# Altium integrated library TI Power Management Supervisor and Reset IC.IntLib: 819 symbols (part 27 of 30)
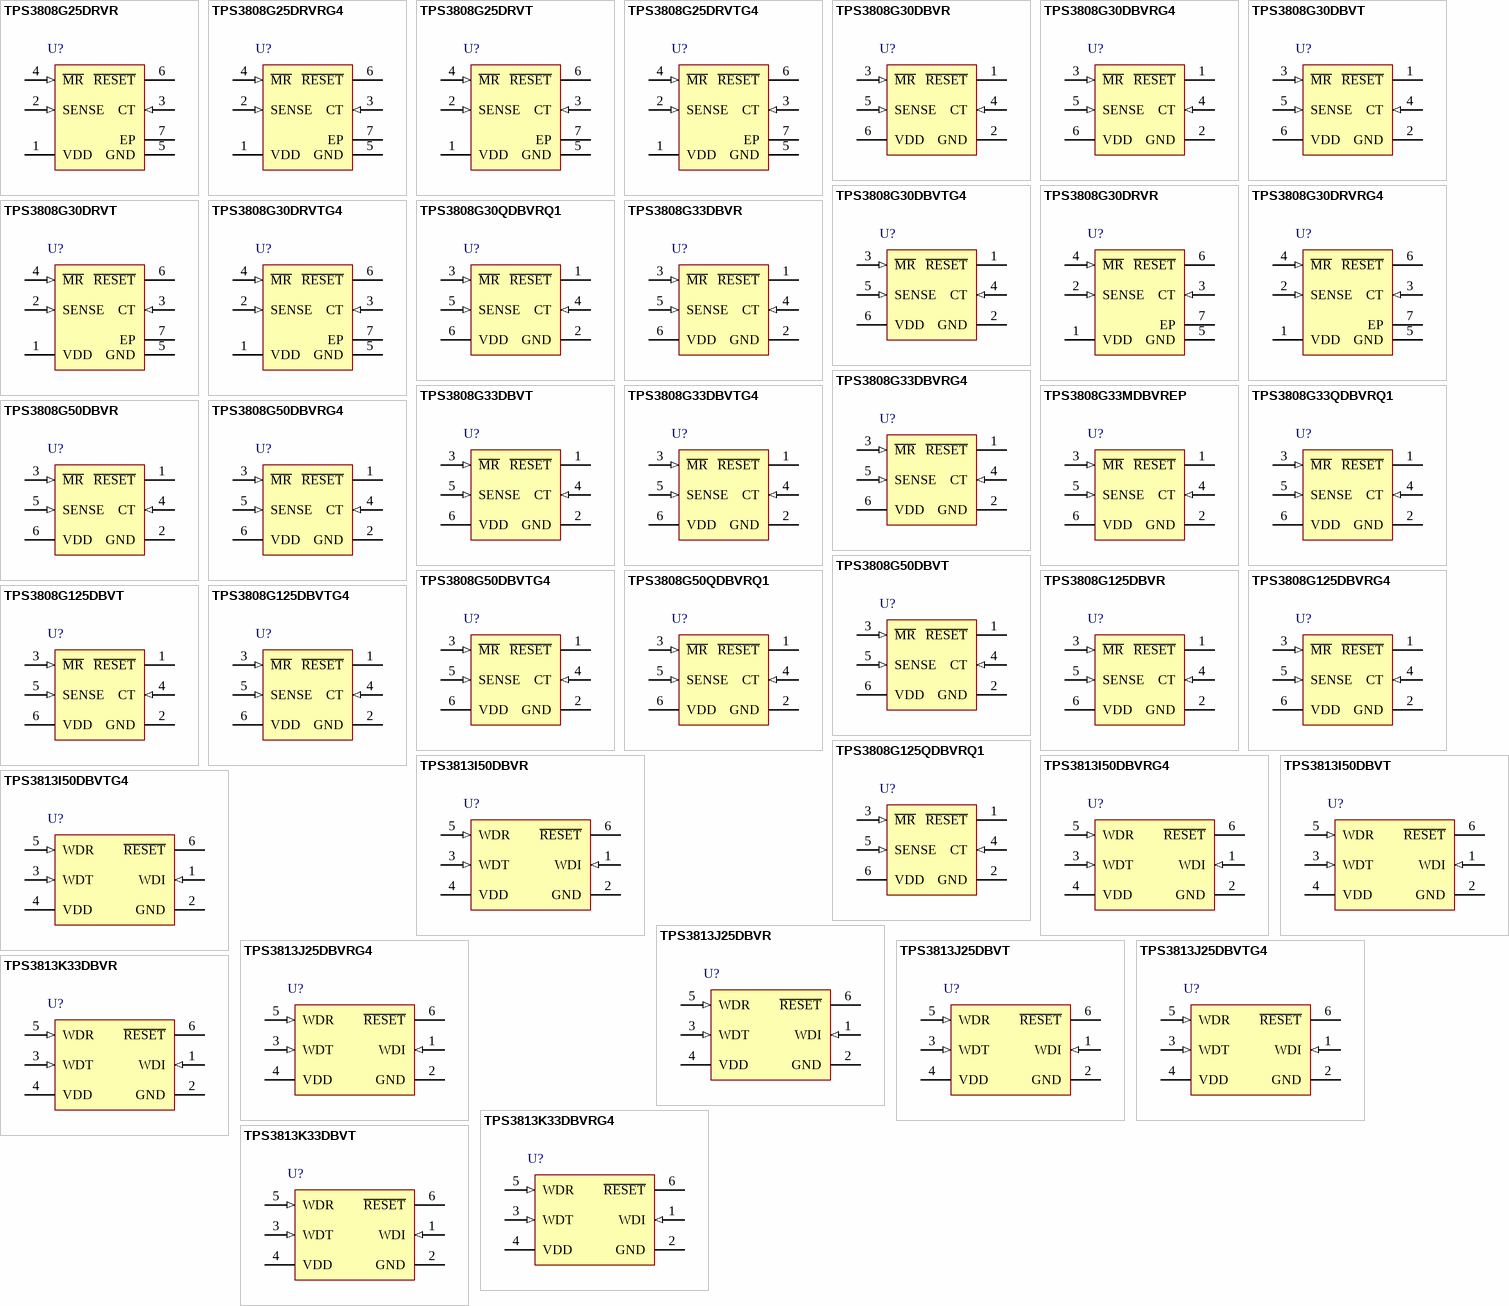
[diagram p47: symbols TPS3808G25DRVR to TPS3813K33DBVT]

## TPS3813K33DBVR
designator U?
Supervisor with Programmable Watchdog Window, 1 Supply Monitored, -40 to 85 degC, 6-pin SOT-23 (DBV), Green (RoHS & no Sb/Br); Manufacturer: Texas Instruments; PartNumber: TPS3813K33DBVR; # of supplies monitored: 1; Iq(Typ)(uA): 9; Output Driver Type / Reset Output: Active-low, Open-drain; Rating: Catalog; Reset Threshold Accuracy(%): 2.2; SubFamily: Supervisor and Reset IC; Threshold Voltage 1 (typ)(Typ)(V): 2.93; Time Delay(ms): 25; VCC(Max)(V): 6; VCC(Min)(V): 2; DatasheetVersion: SLVS331F; PackageVersion: revK, Mar-2006; PackageReference: DBV6; PackageDescription: 6-Pin Plastic Small-Outline Package, 2.9 x 1.6 mm Body, 0.95 mm Pitch, 2.8 mm Lead Span; Supplier 1: Digi-Key; Supplier Part Number 1: TPS3813K33DBVR-ND; Supplier 2: Newark; Supplier Part Number 2: 77C0409; Supplier 3: Mouser; Supplier Part Number 3: 595-TPS3813K33DBVR; Watchdog Timer WDI(sec): Programmable; Mounting Technology: Surface Mount; Code_JEDEC: MO-178-AB*; ComponentLink1Description: Datasheet; ComponentLink1URL: http://www.ti.com/general/docs/lit/getliterature.tsp?genericPartNumber=TPS3813K33&fileType=pdf
footprint DBV6_N (SOT23, 6-Leads, Body 2.9x1.6mm, Pitch 0.95mm, Lead Span 2.8mm, IPC Medium Density)
footprint DBV6_L (SOT23, 6-Leads, Body 2.9x1.6mm, Pitch 0.95mm, Lead Span 2.8mm, IPC High Density)
footprint DBV6_M (SOT23, 6-Leads, Body 2.9x1.6mm, Pitch 0.95mm, Lead Span 2.8mm, IPC Low Density)
pins: 1 WDI (in) "Watchdog timer input. This input must be driven at all times and not left floating.", 2 GND (power) "Ground", 3 WDT (in) "Programmable watchdog delay input", 4 VDD (power) "Supply voltage and supervising input", 5 WDR (in) "Selectable watchdog window ratio input. This input must be tied to VDD or GND and not left floating", 6 ~{RESET} (oc) "Open-drain reset output"

## TPS3813K33DBVRG4
designator U?
Supervisor with Programmable Watchdog Window, 1 Supply Monitored, -40 to 85 degC, 6-pin SOT-23 (DBV), Green (RoHS & no Sb/Br); Manufacturer: Texas Instruments; PartNumber: TPS3813K33DBVRG4; # of supplies monitored: 1; Iq(Typ)(uA): 9; Output Driver Type / Reset Output: Active-low, Open-drain; Rating: Catalog; Reset Threshold Accuracy(%): 2.2; SubFamily: Supervisor and Reset IC; Threshold Voltage 1 (typ)(Typ)(V): 2.93; Time Delay(ms): 25; VCC(Max)(V): 6; VCC(Min)(V): 2; DatasheetVersion: SLVS331F; PackageVersion: revK, Mar-2006; PackageReference: DBV6; PackageDescription: 6-Pin Plastic Small-Outline Package, 2.9 x 1.6 mm Body, 0.95 mm Pitch, 2.8 mm Lead Span; Supplier 1: Digi-Key; Supplier Part Number 1: TPS3813K33DBVRG4-ND; Supplier 2: Newark; Supplier Part Number 2: 71J8113; Supplier 3: Mouser; Supplier Part Number 3: 595-TPS3813K33DBVRG4; Watchdog Timer WDI(sec): Programmable; Mounting Technology: Surface Mount; Code_JEDEC: MO-178-AB*; ComponentLink1Description: Datasheet; ComponentLink1URL: http://www.ti.com/general/docs/lit/getliterature.tsp?genericPartNumber=TPS3813K33&fileType=pdf
footprint DBV6_N (SOT23, 6-Leads, Body 2.9x1.6mm, Pitch 0.95mm, Lead Span 2.8mm, IPC Medium Density)
footprint DBV6_L (SOT23, 6-Leads, Body 2.9x1.6mm, Pitch 0.95mm, Lead Span 2.8mm, IPC High Density)
footprint DBV6_M (SOT23, 6-Leads, Body 2.9x1.6mm, Pitch 0.95mm, Lead Span 2.8mm, IPC Low Density)
pins: 1 WDI (in) "Watchdog timer input. This input must be driven at all times and not left floating.", 2 GND (power) "Ground", 3 WDT (in) "Programmable watchdog delay input", 4 VDD (power) "Supply voltage and supervising input", 5 WDR (in) "Selectable watchdog window ratio input. This input must be tied to VDD or GND and not left floating", 6 ~{RESET} (oc) "Open-drain reset output"

## TPS3813K33DBVT
designator U?
Supervisor with Programmable Watchdog Window, 1 Supply Monitored, -40 to 85 degC, 6-pin SOT-23 (DBV), Green (RoHS & no Sb/Br); Manufacturer: Texas Instruments; PartNumber: TPS3813K33DBVT; # of supplies monitored: 1; Iq(Typ)(uA): 9; Output Driver Type / Reset Output: Active-low, Open-drain; Rating: Catalog; Reset Threshold Accuracy(%): 2.2; SubFamily: Supervisor and Reset IC; Threshold Voltage 1 (typ)(Typ)(V): 2.93; Time Delay(ms): 25; VCC(Max)(V): 6; VCC(Min)(V): 2; DatasheetVersion: SLVS331F; PackageVersion: revK, Mar-2006; PackageReference: DBV6; PackageDescription: 6-Pin Plastic Small-Outline Package, 2.9 x 1.6 mm Body, 0.95 mm Pitch, 2.8 mm Lead Span; Supplier 1: Digi-Key; Supplier Part Number 1: 296-10920-2-ND; Supplier 2: Digi-Key; Supplier Part Number 2: 296-10920-1-ND; Supplier 3: Digi-Key; Supplier Part Number 3: 296-10920-6-ND; Supplier 4: Farnell; Supplier Part Number 4: 8457190; Supplier 5: Newark; Supplier Part Number 5: 38K8676; Supplier 6: Newark; Supplier Part Number 6: 77C0410; Supplier 7: Mouser; Supplier Part Number 7: 595-TPS3813K33DBVT; Watchdog Timer WDI(sec): Programmable; Mounting Technology: Surface Mount; Code_JEDEC: MO-178-AB*; ComponentLink1Description: Datasheet; ComponentLink1URL: http://www.ti.com/general/docs/lit/getliterature.tsp?genericPartNumber=TPS3813K33&fileType=pdf
footprint DBV6_N (SOT23, 6-Leads, Body 2.9x1.6mm, Pitch 0.95mm, Lead Span 2.8mm, IPC Medium Density)
footprint DBV6_L (SOT23, 6-Leads, Body 2.9x1.6mm, Pitch 0.95mm, Lead Span 2.8mm, IPC High Density)
footprint DBV6_M (SOT23, 6-Leads, Body 2.9x1.6mm, Pitch 0.95mm, Lead Span 2.8mm, IPC Low Density)
pins: 1 WDI (in) "Watchdog timer input. This input must be driven at all times and not left floating.", 2 GND (power) "Ground", 3 WDT (in) "Programmable watchdog delay input", 4 VDD (power) "Supply voltage and supervising input", 5 WDR (in) "Selectable watchdog window ratio input. This input must be tied to VDD or GND and not left floating", 6 ~{RESET} (oc) "Open-drain reset output"

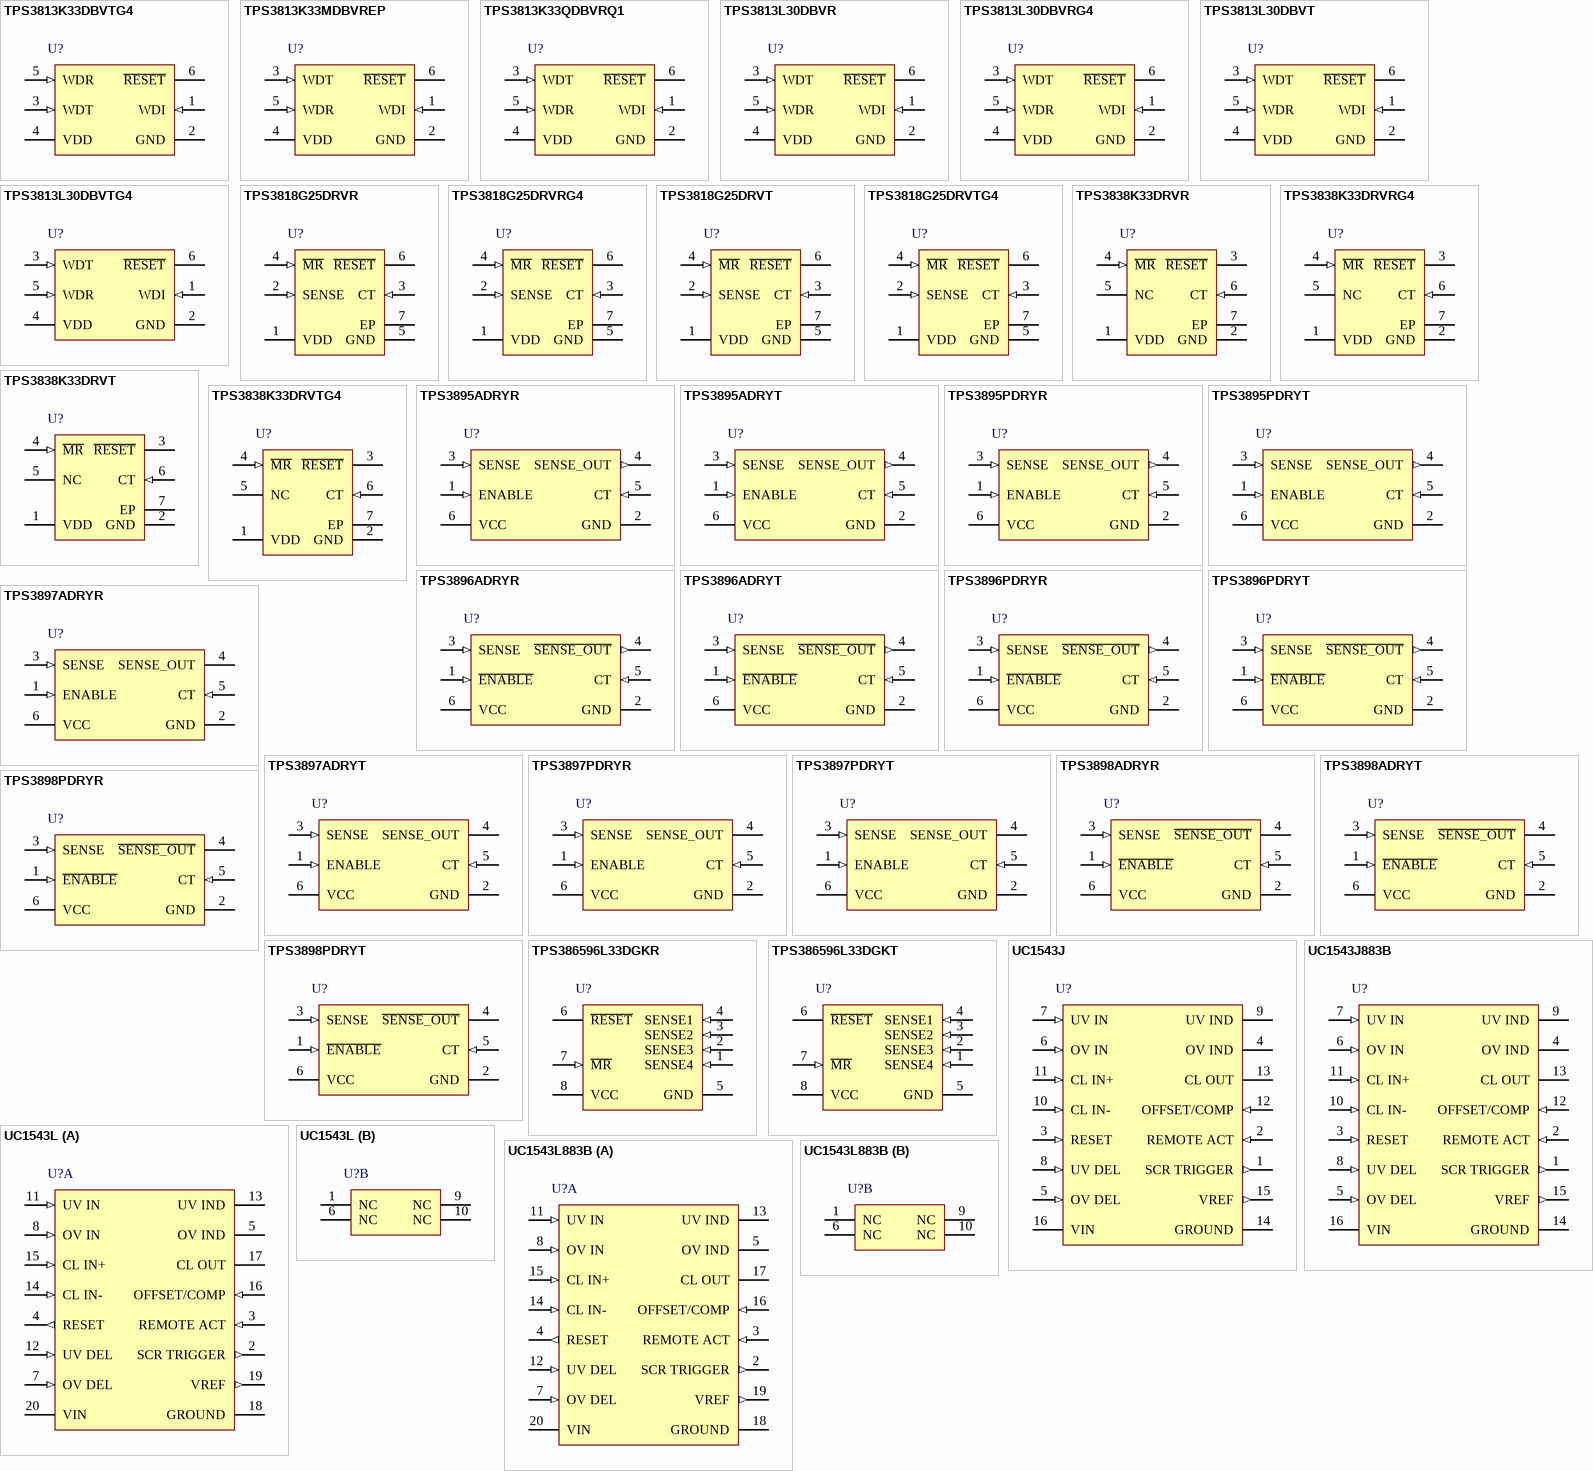
[diagram p19: symbols TPS3813K33DBVTG4 to UC1543L883B]

## TPS3813K33DBVTG4
designator U?
Supervisor with Programmable Watchdog Window, 1 Supply Monitored, -40 to 85 degC, 6-pin SOT-23 (DBV), Green (RoHS & no Sb/Br); Manufacturer: Texas Instruments; PartNumber: TPS3813K33DBVTG4; # of supplies monitored: 1; Iq(Typ)(uA): 9; Output Driver Type / Reset Output: Active-low, Open-drain; Rating: Catalog; Reset Threshold Accuracy(%): 2.2; SubFamily: Supervisor and Reset IC; Threshold Voltage 1 (typ)(Typ)(V): 2.93; Time Delay(ms): 25; VCC(Max)(V): 6; VCC(Min)(V): 2; DatasheetVersion: SLVS331F; PackageVersion: revK, Mar-2006; PackageReference: DBV6; PackageDescription: 6-Pin Plastic Small-Outline Package, 2.9 x 1.6 mm Body, 0.95 mm Pitch, 2.8 mm Lead Span; Supplier 1: Digi-Key; Supplier Part Number 1: TPS3813K33DBVTG4-ND; Supplier 2: Newark; Supplier Part Number 2: 71J8114; Supplier 3: Mouser; Supplier Part Number 3: 595-TPS3813K33DBVTG4; Watchdog Timer WDI(sec): Programmable; Mounting Technology: Surface Mount; Code_JEDEC: MO-178-AB*; ComponentLink1Description: Datasheet; ComponentLink1URL: http://www.ti.com/general/docs/lit/getliterature.tsp?genericPartNumber=TPS3813K33&fileType=pdf
footprint DBV6_N (SOT23, 6-Leads, Body 2.9x1.6mm, Pitch 0.95mm, Lead Span 2.8mm, IPC Medium Density)
footprint DBV6_L (SOT23, 6-Leads, Body 2.9x1.6mm, Pitch 0.95mm, Lead Span 2.8mm, IPC High Density)
footprint DBV6_M (SOT23, 6-Leads, Body 2.9x1.6mm, Pitch 0.95mm, Lead Span 2.8mm, IPC Low Density)
pins: 1 WDI (in) "Watchdog timer input. This input must be driven at all times and not left floating.", 2 GND (power) "Ground", 3 WDT (in) "Programmable watchdog delay input", 4 VDD (power) "Supply voltage and supervising input", 5 WDR (in) "Selectable watchdog window ratio input. This input must be tied to VDD or GND and not left floating", 6 ~{RESET} (oc) "Open-drain reset output"

## TPS3813K33MDBVREP
designator U?
Enhanced Product Processor Supervisory Circuit with Window-Watchdog, 1 Supply Monitored, -55 to 125 degC, 6-pin SOT-23 (DBV), Green (RoHS & no Sb/Br); Manufacturer: Texas Instruments; PartNumber: TPS3813K33MDBVREP; # of supplies monitored: 1; Iq(Typ)(uA): 9; Output Driver Type / Reset Output: Active-low, Open-drain; Rating: HiRel Enhanced Product; Reset Threshold Accuracy(%): 2.2; SubFamily: Supervisor and Reset IC; Threshold Voltage 1 (typ)(Typ)(V): 2.93; Time Delay(ms): 25; VCC(Max)(V): 6; VCC(Min)(V): 2; Watchdog Timer WDI(sec): Programmable; DatasheetVersion: SGLS343A; PackageVersion: revK, Mar-2006; PackageReference: DBV6; PackageDescription: 6-Pin Plastic Small-Outline Package, 2.9 x 1.6 mm Body, 0.95 mm Pitch, 2.8 mm Lead Span; Supplier 1: Digi-Key; Supplier Part Number 1: 296-22441-2-ND; Supplier 2: Digi-Key; Supplier Part Number 2: 296-22441-1-ND; Supplier 3: Digi-Key; Supplier Part Number 3: 296-22441-6-ND; Supplier 4: Newark; Supplier Part Number 4: 46M1104; Supplier 5: Mouser; Supplier Part Number 5: 595-PS3813K33MDBVREP; Mounting Technology: Surface Mount; Code_JEDEC: MO-178-AB*; ComponentLink1Description: Datasheet; ComponentLink1URL: http://www.ti.com/general/docs/lit/getliterature.tsp?genericPartNumber=TPS3813K33-EP&fileType=pdf
footprint DBV6_N (SOT23, 6-Leads, Body 2.9x1.6mm, Pitch 0.95mm, Lead Span 2.8mm, IPC Medium Density)
footprint DBV6_L (SOT23, 6-Leads, Body 2.9x1.6mm, Pitch 0.95mm, Lead Span 2.8mm, IPC High Density)
footprint DBV6_M (SOT23, 6-Leads, Body 2.9x1.6mm, Pitch 0.95mm, Lead Span 2.8mm, IPC Low Density)
pins: 1 WDI (in) "Watchdog timer input.", 2 GND (power) "Ground.", 3 WDT (in) "Programmable watchdog delay input.", 4 VDD (power) "Supply voltage and supervising input.", 5 WDR (in) "Selectable watchdog window ratio input.", 6 ~{RESET} (oc) "Open-drain reset output."

## TPS3813K33QDBVRQ1
designator U?
Automotive Catalog Supervisor with Programmable Watchdog Window, 1 Supply Monitored, -40 to 125 degC, 6-pin SOT-23 (DBV), Green (RoHS & no Sb/Br); Manufacturer: Texas Instruments; PartNumber: TPS3813K33QDBVRQ1; # of supplies monitored: 1; Iq(Typ)(uA): 9; Output Driver Type / Reset Output: Active-low, Open-drain; Reset Threshold Accuracy(%): 2.2; SubFamily: Supervisor and Reset IC; Threshold Voltage 1 (typ)(Typ)(V): 2.93; Time Delay(ms): 25; VCC(Max)(V): 6; VCC(Min)(V): 2; DatasheetVersion: SPRS288B; PackageVersion: revK, Mar-2006; PackageReference: DBV6; PackageDescription: 6-Pin Plastic Small-Outline Package, 2.9 x 1.6 mm Body, 0.95 mm Pitch, 2.8 mm Lead Span; Supplier 1: Digi-Key; Supplier Part Number 1: 296-23955-2-ND; Supplier 2: Digi-Key; Supplier Part Number 2: 296-23955-1-ND; Supplier 3: Digi-Key; Supplier Part Number 3: 296-23955-6-ND; Supplier 4: Newark; Supplier Part Number 4: 34P6485; Supplier 5: Mouser; Supplier Part Number 5: 595-PS3813K33QDBVRQ1; Rating: Automotive; Watchdog Timer WDI(sec): Programmable; Mounting Technology: Surface Mount; Code_JEDEC: MO-178-AB*; ComponentLink1Description: Datasheet; ComponentLink1URL: http://www.ti.com/general/docs/lit/getliterature.tsp?genericPartNumber=TPS3813K33-Q1&fileType=pdf
footprint DBV6_N (SOT23, 6-Leads, Body 2.9x1.6mm, Pitch 0.95mm, Lead Span 2.8mm, IPC Medium Density)
footprint DBV6_L (SOT23, 6-Leads, Body 2.9x1.6mm, Pitch 0.95mm, Lead Span 2.8mm, IPC High Density)
footprint DBV6_M (SOT23, 6-Leads, Body 2.9x1.6mm, Pitch 0.95mm, Lead Span 2.8mm, IPC Low Density)
pins: 1 WDI (in) "Watchdog timer input", 2 GND (power) "Ground", 3 WDT (in) "Programmable watchdog delay input", 4 VDD (power) "Supply voltage and supervising input", 5 WDR (in) "Selectable watchdog window ratio input", 6 ~{RESET} (oc) "Open-drain reset output"

## TPS3813L30DBVR
designator U?
Supervisor with Programmable Watchdog Window, 1 Supply Monitored, -40 to 85 degC, 6-pin SOT-23 (DBV), Green (RoHS & no Sb/Br); Manufacturer: Texas Instruments; PartNumber: TPS3813L30DBVR; # of supplies monitored: 1; Iq(Typ)(uA): 9; Output Driver Type / Reset Output: Active-low, Open-drain; Rating: Catalog; Reset Threshold Accuracy(%): 2.3; SubFamily: Supervisor and Reset IC; Threshold Voltage 1 (typ)(Typ)(V): 2.64; Time Delay(ms): 25; VCC(Max)(V): 6; VCC(Min)(V): 2; DatasheetVersion: SLVS331F; PackageVersion: revK, Mar-2006; PackageReference: DBV6; PackageDescription: 6-Pin Plastic Small-Outline Package, 2.9 x 1.6 mm Body, 0.95 mm Pitch, 2.8 mm Lead Span; Supplier 1: Digi-Key; Supplier Part Number 1: TPS3813L30DBVR-ND; Supplier 2: Newark; Supplier Part Number 2: 77C0411; Supplier 3: Mouser; Supplier Part Number 3: 595-TPS3813L30DBVR; Watchdog Timer WDI(sec): Programmable; Mounting Technology: Surface Mount; Code_JEDEC: MO-178-AB*; ComponentLink1Description: Datasheet; ComponentLink1URL: http://www.ti.com/general/docs/lit/getliterature.tsp?genericPartNumber=TPS3813L30&fileType=pdf
footprint DBV6_N (SOT23, 6-Leads, Body 2.9x1.6mm, Pitch 0.95mm, Lead Span 2.8mm, IPC Medium Density)
footprint DBV6_L (SOT23, 6-Leads, Body 2.9x1.6mm, Pitch 0.95mm, Lead Span 2.8mm, IPC High Density)
footprint DBV6_M (SOT23, 6-Leads, Body 2.9x1.6mm, Pitch 0.95mm, Lead Span 2.8mm, IPC Low Density)
pins: 1 WDI (in) "Watchdog timer input. This input must be driven at all times and not left floating", 2 GND (power) "Ground", 3 WDT (in) "Programmable watchdog delay input", 4 VDD (power) "Supply voltage and supervising input", 5 WDR (in) "Selectable watchdog window ratio input. This input must be tied to VDD or GND and not left floating", 6 ~{RESET} (oc) "Open-drain reset output"

## TPS3813L30DBVRG4
designator U?
Supervisor with Programmable Watchdog Window, 1 Supply Monitored, -40 to 85 degC, 6-pin SOT-23 (DBV), Green (RoHS & no Sb/Br); Manufacturer: Texas Instruments; PartNumber: TPS3813L30DBVRG4; # of supplies monitored: 1; Iq(Typ)(uA): 9; Output Driver Type / Reset Output: Active-low, Open-drain; Rating: Catalog; Reset Threshold Accuracy(%): 2.3; SubFamily: Supervisor and Reset IC; Threshold Voltage 1 (typ)(Typ)(V): 2.64; Time Delay(ms): 25; VCC(Max)(V): 6; VCC(Min)(V): 2; DatasheetVersion: SLVS331F; PackageVersion: revK, Mar-2006; PackageReference: DBV6; PackageDescription: 6-Pin Plastic Small-Outline Package, 2.9 x 1.6 mm Body, 0.95 mm Pitch, 2.8 mm Lead Span; Supplier 1: Digi-Key; Supplier Part Number 1: TPS3813L30DBVRG4-ND; Supplier 2: Newark; Supplier Part Number 2: 71J8115; Supplier 3: Mouser; Supplier Part Number 3: 595-TPS3813L30DBVRG4; Watchdog Timer WDI(sec): Programmable; Mounting Technology: Surface Mount; Code_JEDEC: MO-178-AB*; ComponentLink1Description: Datasheet; ComponentLink1URL: http://www.ti.com/general/docs/lit/getliterature.tsp?genericPartNumber=TPS3813L30&fileType=pdf
footprint DBV6_N (SOT23, 6-Leads, Body 2.9x1.6mm, Pitch 0.95mm, Lead Span 2.8mm, IPC Medium Density)
footprint DBV6_L (SOT23, 6-Leads, Body 2.9x1.6mm, Pitch 0.95mm, Lead Span 2.8mm, IPC High Density)
footprint DBV6_M (SOT23, 6-Leads, Body 2.9x1.6mm, Pitch 0.95mm, Lead Span 2.8mm, IPC Low Density)
pins: 1 WDI (in) "Watchdog timer input. This input must be driven at all times and not left floating", 2 GND (power) "Ground", 3 WDT (in) "Programmable watchdog delay input", 4 VDD (power) "Supply voltage and supervising input", 5 WDR (in) "Selectable watchdog window ratio input. This input must be tied to VDD or GND and not left floating", 6 ~{RESET} (oc) "Open-drain reset output"

## TPS3813L30DBVT
designator U?
Supervisor with Programmable Watchdog Window, 1 Supply Monitored, -40 to 85 degC, 6-pin SOT-23 (DBV), Green (RoHS & no Sb/Br); Manufacturer: Texas Instruments; PartNumber: TPS3813L30DBVT; # of supplies monitored: 1; Iq(Typ)(uA): 9; Output Driver Type / Reset Output: Active-low, Open-drain; Rating: Catalog; Reset Threshold Accuracy(%): 2.3; SubFamily: Supervisor and Reset IC; Threshold Voltage 1 (typ)(Typ)(V): 2.64; Time Delay(ms): 25; VCC(Max)(V): 6; VCC(Min)(V): 2; DatasheetVersion: SLVS331F; PackageVersion: revK, Mar-2006; PackageReference: DBV6; PackageDescription: 6-Pin Plastic Small-Outline Package, 2.9 x 1.6 mm Body, 0.95 mm Pitch, 2.8 mm Lead Span; Supplier 1: Digi-Key; Supplier Part Number 1: 296-10921-2-ND; Supplier 2: Digi-Key; Supplier Part Number 2: 296-10921-1-ND; Supplier 3: Digi-Key; Supplier Part Number 3: 296-10921-6-ND; Supplier 4: Farnell; Supplier Part Number 4: 8457204; Supplier 5: Newark; Supplier Part Number 5: 77C0412; Supplier 6: Mouser; Supplier Part Number 6: 595-TPS3813L30DBVT; Watchdog Timer WDI(sec): Programmable; Mounting Technology: Surface Mount; Code_JEDEC: MO-178-AB*; ComponentLink1Description: Datasheet; ComponentLink1URL: http://www.ti.com/general/docs/lit/getliterature.tsp?genericPartNumber=TPS3813L30&fileType=pdf
footprint DBV6_N (SOT23, 6-Leads, Body 2.9x1.6mm, Pitch 0.95mm, Lead Span 2.8mm, IPC Medium Density)
footprint DBV6_L (SOT23, 6-Leads, Body 2.9x1.6mm, Pitch 0.95mm, Lead Span 2.8mm, IPC High Density)
footprint DBV6_M (SOT23, 6-Leads, Body 2.9x1.6mm, Pitch 0.95mm, Lead Span 2.8mm, IPC Low Density)
pins: 1 WDI (in) "Watchdog timer input. This input must be driven at all times and not left floating", 2 GND (power) "Ground", 3 WDT (in) "Programmable watchdog delay input", 4 VDD (power) "Supply voltage and supervising input", 5 WDR (in) "Selectable watchdog window ratio input. This input must be tied to VDD or GND and not left floating", 6 ~{RESET} (oc) "Open-drain reset output"

## TPS3813L30DBVTG4
designator U?
Supervisor with Programmable Watchdog Window, 1 Supply Monitored, -40 to 85 degC, 6-pin SOT-23 (DBV), Green (RoHS & no Sb/Br); Manufacturer: Texas Instruments; PartNumber: TPS3813L30DBVTG4; # of supplies monitored: 1; Iq(Typ)(uA): 9; Output Driver Type / Reset Output: Active-low, Open-drain; Rating: Catalog; Reset Threshold Accuracy(%): 2.3; SubFamily: Supervisor and Reset IC; Threshold Voltage 1 (typ)(Typ)(V): 2.64; Time Delay(ms): 25; VCC(Max)(V): 6; VCC(Min)(V): 2; DatasheetVersion: SLVS331F; PackageVersion: revK, Mar-2006; PackageReference: DBV6; PackageDescription: 6-Pin Plastic Small-Outline Package, 2.9 x 1.6 mm Body, 0.95 mm Pitch, 2.8 mm Lead Span; Supplier 1: Digi-Key; Supplier Part Number 1: TPS3813L30DBVTG4-ND; Supplier 2: Newark; Supplier Part Number 2: 71J8116; Supplier 3: Mouser; Supplier Part Number 3: 595-TPS3813L30DBVTG4; Watchdog Timer WDI(sec): Programmable; Mounting Technology: Surface Mount; Code_JEDEC: MO-178-AB*; ComponentLink1Description: Datasheet; ComponentLink1URL: http://www.ti.com/general/docs/lit/getliterature.tsp?genericPartNumber=TPS3813L30&fileType=pdf
footprint DBV6_N (SOT23, 6-Leads, Body 2.9x1.6mm, Pitch 0.95mm, Lead Span 2.8mm, IPC Medium Density)
footprint DBV6_L (SOT23, 6-Leads, Body 2.9x1.6mm, Pitch 0.95mm, Lead Span 2.8mm, IPC High Density)
footprint DBV6_M (SOT23, 6-Leads, Body 2.9x1.6mm, Pitch 0.95mm, Lead Span 2.8mm, IPC Low Density)
pins: 1 WDI (in) "Watchdog timer input. This input must be driven at all times and not left floating", 2 GND (power) "Ground", 3 WDT (in) "Programmable watchdog delay input", 4 VDD (power) "Supply voltage and supervising input", 5 WDR (in) "Selectable watchdog window ratio input. This input must be tied to VDD or GND and not left floating", 6 ~{RESET} (oc) "Open-drain reset output"

## TPS3818G25DRVR
designator U?
Low Quiescent Current, Accurate Programmable-Delay Supervisory Circuit, 1 Supply Monitored, -40 to 125 degC, 6-pin SON (DRV), Green (RoHS & no Sb/Br); Manufacturer: Texas Instruments; PartNumber: TPS3818G25DRVR; # of supplies monitored: 1; Iq(Typ)(uA): 2.4; Output Driver Type / Reset Output: Active-low, Open-drain; Rating: Catalog; Reset Threshold Accuracy(%): 0.5; SubFamily: Supervisor and Reset IC; Threshold Voltage 1 (typ)(Typ)(V): 2.33; VCC(Max)(V): 6.5; VCC(Min)(V): 1.7; DatasheetVersion: SBVS106A; PackageVersion: revE, Oct-2010; PackageReference: DRV6-1600X1000TP; PackageDescription: 6-Pin Plastic Small Outline No-Lead, 2 x 2 x 0.8 mm Body, 0.65 mm Pitch, Exposed Pad; Supplier 1: Digi-Key; Supplier Part Number 1: TPS3818G25DRVR-ND; Supplier 2: Mouser; Supplier Part Number 2: 595-TPS3818G25DRVR; Time Delay(ms): Programmable; Mounting Technology: Surface Mount; ComponentLink1Description: Datasheet; ComponentLink1URL: http://www.ti.com/general/docs/lit/getliterature.tsp?genericPartNumber=TPS3818G25&fileType=pdf
footprint DRV6-1600X1000TP (SON, 6-Leads, Body 2x2mm, Pitch 0.65mm, Thermal Pad 1.6x1mm, TI Recommended)
pins: 1 VDD (power) "Supply voltage. It is good analog design practice to place a 0.1uF ceramic capacitor close to this pin.", 2 SENSE (in) "This pin is connected to the voltage to be monitored. If the voltage at this terminal drops below the threshold voltage VIT, then R\E\S\E\T\ is asserted.", 3 CT (in) "Reset period programming pin. Connecting this pin to VDD through a 40k ohm to 200k ohm resistor or leaving it open results in fixed delay times (see Electrical Characteristics). Connecting this pin to a ground referenced (See Datasheet)", 4 ~{MR} (in) "Driving the manual reset pin (M\R\) low asserts R\E\S\E\T\. M\R\ is internally tied to VDD by a 90k ohm pull-up resistor.", 5 GND (power) "Ground", 6 ~{RESET} (hiz) "R\E\S\E\T\ is an open-drain output that is driven to a low impedance state when R\E\S\E\T\ is asserted (either the SENSE input is lower than the threshold voltage (VIT) or the M\R\ pin is set to a logic low). R\E\S\E\T\ will (See Datasheet)", 7 EP (power) "PowerPAD. Connect to ground plane to enhance thermal performance of package."

## TPS3818G25DRVRG4
designator U?
Low Quiescent Current, Accurate Programmable-Delay Supervisory Circuit, 1 Supply Monitored, -40 to 125 degC, 6-pin SON (DRV), Green (RoHS & no Sb/Br); Manufacturer: Texas Instruments; PartNumber: TPS3818G25DRVRG4; # of supplies monitored: 1; Iq(Typ)(uA): 2.4; Output Driver Type / Reset Output: Active-low, Open-drain; Rating: Catalog; Reset Threshold Accuracy(%): 0.5; SubFamily: Supervisor and Reset IC; Threshold Voltage 1 (typ)(Typ)(V): 2.33; VCC(Max)(V): 6.5; VCC(Min)(V): 1.7; DatasheetVersion: SBVS106A; PackageVersion: revE, Oct-2010; PackageReference: DRV6-1600X1000TP; PackageDescription: 6-Pin Plastic Small Outline No-Lead, 2 x 2 x 0.8 mm Body, 0.65 mm Pitch, Exposed Pad; Supplier 1: Digi-Key; Supplier Part Number 1: TPS3818G25DRVRG4-ND; Supplier 2: Mouser; Supplier Part Number 2: 595-TPS3818G25DRVRG4; Time Delay(ms): Programmable; Mounting Technology: Surface Mount; ComponentLink1Description: Datasheet; ComponentLink1URL: http://www.ti.com/general/docs/lit/getliterature.tsp?genericPartNumber=TPS3818G25&fileType=pdf
footprint DRV6-1600X1000TP (SON, 6-Leads, Body 2x2mm, Pitch 0.65mm, Thermal Pad 1.6x1mm, TI Recommended)
pins: 1 VDD (power) "Supply voltage. It is good analog design practice to place a 0.1uF ceramic capacitor close to this pin.", 2 SENSE (in) "This pin is connected to the voltage to be monitored. If the voltage at this terminal drops below the threshold voltage VIT, then R\E\S\E\T\ is asserted.", 3 CT (in) "Reset period programming pin. Connecting this pin to VDD through a 40k ohm to 200k ohm resistor or leaving it open results in fixed delay times (see Electrical Characteristics). Connecting this pin to a ground referenced (See Datasheet)", 4 ~{MR} (in) "Driving the manual reset pin (M\R\) low asserts R\E\S\E\T\. M\R\ is internally tied to VDD by a 90k ohm pull-up resistor.", 5 GND (power) "Ground", 6 ~{RESET} (hiz) "R\E\S\E\T\ is an open-drain output that is driven to a low impedance state when R\E\S\E\T\ is asserted (either the SENSE input is lower than the threshold voltage (VIT) or the M\R\ pin is set to a logic low). R\E\S\E\T\ will (See Datasheet)", 7 EP (power) "PowerPAD. Connect to ground plane to enhance thermal performance of package."

## TPS3818G25DRVT
designator U?
Low Quiescent Current, Accurate Programmable-Delay Supervisory Circuit, 1 Supply Monitored, -40 to 125 degC, 6-pin SON (DRV), Green (RoHS & no Sb/Br); Manufacturer: Texas Instruments; PartNumber: TPS3818G25DRVT; # of supplies monitored: 1; Iq(Typ)(uA): 2.4; Output Driver Type / Reset Output: Active-low, Open-drain; Rating: Catalog; Reset Threshold Accuracy(%): 0.5; SubFamily: Supervisor and Reset IC; Threshold Voltage 1 (typ)(Typ)(V): 2.33; VCC(Max)(V): 6.5; VCC(Min)(V): 1.7; DatasheetVersion: SBVS106A; PackageVersion: revE, Oct-2010; PackageReference: DRV6-1600X1000TP; PackageDescription: 6-Pin Plastic Small Outline No-Lead, 2 x 2 x 0.8 mm Body, 0.65 mm Pitch, Exposed Pad; Supplier 1: Digi-Key; Supplier Part Number 1: 296-23479-2-ND; Supplier 2: Digi-Key; Supplier Part Number 2: 296-23479-1-ND; Supplier 3: Digi-Key; Supplier Part Number 3: 296-23479-6-ND; Supplier 4: Newark; Supplier Part Number 4: 11N7836; Supplier 5: Mouser; Supplier Part Number 5: 595-TPS3818G25DRVT; Time Delay(ms): Programmable; Mounting Technology: Surface Mount; ComponentLink1Description: Datasheet; ComponentLink1URL: http://www.ti.com/general/docs/lit/getliterature.tsp?genericPartNumber=TPS3818G25&fileType=pdf
footprint DRV6-1600X1000TP (SON, 6-Leads, Body 2x2mm, Pitch 0.65mm, Thermal Pad 1.6x1mm, TI Recommended)
pins: 1 VDD (power) "Supply voltage. It is good analog design practice to place a 0.1uF ceramic capacitor close to this pin.", 2 SENSE (in) "This pin is connected to the voltage to be monitored. If the voltage at this terminal drops below the threshold voltage VIT, then R\E\S\E\T\ is asserted.", 3 CT (in) "Reset period programming pin. Connecting this pin to VDD through a 40k ohm to 200k ohm resistor or leaving it open results in fixed delay times (see Electrical Characteristics). Connecting this pin to a ground referenced (See Datasheet)", 4 ~{MR} (in) "Driving the manual reset pin (M\R\) low asserts R\E\S\E\T\. M\R\ is internally tied to VDD by a 90k ohm pull-up resistor.", 5 GND (power) "Ground", 6 ~{RESET} (hiz) "R\E\S\E\T\ is an open-drain output that is driven to a low impedance state when R\E\S\E\T\ is asserted (either the SENSE input is lower than the threshold voltage (VIT) or the M\R\ pin is set to a logic low). R\E\S\E\T\ will (See Datasheet)", 7 EP (power) "PowerPAD. Connect to ground plane to enhance thermal performance of package."

## TPS3818G25DRVTG4
designator U?
Low Quiescent Current, Accurate Programmable-Delay Supervisory Circuit, 1 Supply Monitored, -40 to 125 degC, 6-pin SON (DRV), Green (RoHS & no Sb/Br); Manufacturer: Texas Instruments; PartNumber: TPS3818G25DRVTG4; # of supplies monitored: 1; Iq(Typ)(uA): 2.4; Output Driver Type / Reset Output: Active-low, Open-drain; Rating: Catalog; Reset Threshold Accuracy(%): 0.5; SubFamily: Supervisor and Reset IC; Threshold Voltage 1 (typ)(Typ)(V): 2.33; VCC(Max)(V): 6.5; VCC(Min)(V): 1.7; DatasheetVersion: SBVS106A; PackageVersion: revE, Oct-2010; PackageReference: DRV6-1600X1000TP; PackageDescription: 6-Pin Plastic Small Outline No-Lead, 2 x 2 x 0.8 mm Body, 0.65 mm Pitch, Exposed Pad; Supplier 1: Digi-Key; Supplier Part Number 1: TPS3818G25DRVTG4-ND; Supplier 2: Mouser; Supplier Part Number 2: 595-TPS3818G25DRVTG4; Time Delay(ms): Programmable; Mounting Technology: Surface Mount; ComponentLink1Description: Datasheet; ComponentLink1URL: http://www.ti.com/general/docs/lit/getliterature.tsp?genericPartNumber=TPS3818G25&fileType=pdf
footprint DRV6-1600X1000TP (SON, 6-Leads, Body 2x2mm, Pitch 0.65mm, Thermal Pad 1.6x1mm, TI Recommended)
pins: 1 VDD (power) "Supply voltage. It is good analog design practice to place a 0.1uF ceramic capacitor close to this pin.", 2 SENSE (in) "This pin is connected to the voltage to be monitored. If the voltage at this terminal drops below the threshold voltage VIT, then R\E\S\E\T\ is asserted.", 3 CT (in) "Reset period programming pin. Connecting this pin to VDD through a 40k ohm to 200k ohm resistor or leaving it open results in fixed delay times (see Electrical Characteristics). Connecting this pin to a ground referenced (See Datasheet)", 4 ~{MR} (in) "Driving the manual reset pin (M\R\) low asserts R\E\S\E\T\. M\R\ is internally tied to VDD by a 90k ohm pull-up resistor.", 5 GND (power) "Ground", 6 ~{RESET} (hiz) "R\E\S\E\T\ is an open-drain output that is driven to a low impedance state when R\E\S\E\T\ is asserted (either the SENSE input is lower than the threshold voltage (VIT) or the M\R\ pin is set to a logic low). R\E\S\E\T\ will (See Datasheet)", 7 EP (power) "PowerPAD. Connect to ground plane to enhance thermal performance of package."

## TPS3838K33DRVR
designator U?
220 nA Supervisor with 10 ms / 200 ms Selectable Delay Time, 1 Supply Monitored, -40 to 85 degC, 6-pin SON (DRV), Green (RoHS & no Sb/Br); Manufacturer: Texas Instruments; PartNumber: TPS3838K33DRVR; # of supplies monitored: 1; Iq(Typ)(uA): 0.22; Output Driver Type / Reset Output: Active-low, Open-drain; Rating: Catalog; Reset Threshold Accuracy(%): 2.6; SubFamily: Supervisor and Reset IC; Threshold Voltage 1 (typ)(Typ)(V): 2.93; Time Delay(ms): 10/200; VCC(Max)(V): 6; VCC(Min)(V): 1.6; DatasheetVersion: SLVS292E; PackageVersion: revE, Oct-2010; PackageReference: DRV6-1600X1000TP; PackageDescription: 6-Pin Plastic Small Outline No-Lead, 2 x 2 x 0.8 mm Body, 0.65 mm Pitch, Exposed Pad; Supplier 1: Digi-Key; Supplier Part Number 1: 296-22631-2-ND; Supplier 2: Digi-Key; Supplier Part Number 2: 296-22631-1-ND; Supplier 3: Digi-Key; Supplier Part Number 3: 296-22631-6-ND; Supplier 4: Newark; Supplier Part Number 4: 58M1282; Supplier 5: Mouser; Supplier Part Number 5: 595-TPS3838K33DRVR; Mounting Technology: Surface Mount; ComponentLink1Description: Datasheet; ComponentLink1URL: http://www.ti.com/general/docs/lit/getliterature.tsp?genericPartNumber=TPS3838K33&fileType=pdf
footprint DRV6-1600X1000TP (SON, 6-Leads, Body 2x2mm, Pitch 0.65mm, Thermal Pad 1.6x1mm, TI Recommended)
pins: 1 VDD (power), 2 GND (power), 3 ~{RESET} (oc), 4 ~{MR} (in), 5 NC, 6 CT (in), 7 EP (power)

## TPS3838K33DRVRG4
designator U?
220 nA Supervisor with 10 ms / 200 ms Selectable Delay Time, 1 Supply Monitored, -40 to 85 degC, 6-pin SON (DRV), Green (RoHS & no Sb/Br); Manufacturer: Texas Instruments; PartNumber: TPS3838K33DRVRG4; # of supplies monitored: 1; Iq(Typ)(uA): 0.22; Output Driver Type / Reset Output: Active-low, Open-drain; Rating: Catalog; Reset Threshold Accuracy(%): 2.6; SubFamily: Supervisor and Reset IC; Threshold Voltage 1 (typ)(Typ)(V): 2.93; Time Delay(ms): 10/200; VCC(Max)(V): 6; VCC(Min)(V): 1.6; DatasheetVersion: SLVS292E; PackageVersion: revE, Oct-2010; PackageReference: DRV6-1600X1000TP; PackageDescription: 6-Pin Plastic Small Outline No-Lead, 2 x 2 x 0.8 mm Body, 0.65 mm Pitch, Exposed Pad; Supplier 1: Digi-Key; Supplier Part Number 1: TPS3838K33DRVRG4-ND; Supplier 2: Newark; Supplier Part Number 2: 60M1788; Supplier 3: Mouser; Supplier Part Number 3: 595-TPS3838K33DRVRG4; Mounting Technology: Surface Mount; ComponentLink1Description: Datasheet; ComponentLink1URL: http://www.ti.com/general/docs/lit/getliterature.tsp?genericPartNumber=TPS3838K33&fileType=pdf
footprint DRV6-1600X1000TP (SON, 6-Leads, Body 2x2mm, Pitch 0.65mm, Thermal Pad 1.6x1mm, TI Recommended)
pins: 1 VDD (power), 2 GND (power), 3 ~{RESET} (oc), 4 ~{MR} (in), 5 NC, 6 CT (in), 7 EP (power)

## TPS3838K33DRVT
designator U?
220 nA Supervisor with 10 ms / 200 ms Selectable Delay Time, 1 Supply Monitored, -40 to 85 degC, 6-pin SON (DRV), Green (RoHS & no Sb/Br); Manufacturer: Texas Instruments; PartNumber: TPS3838K33DRVT; # of supplies monitored: 1; Iq(Typ)(uA): 0.22; Output Driver Type / Reset Output: Active-low, Open-drain; Rating: Catalog; Reset Threshold Accuracy(%): 2.6; SubFamily: Supervisor and Reset IC; Threshold Voltage 1 (typ)(Typ)(V): 2.93; Time Delay(ms): 10/200; VCC(Max)(V): 6; VCC(Min)(V): 1.6; DatasheetVersion: SLVS292E; PackageVersion: revE, Oct-2010; PackageReference: DRV6-1600X1000TP; PackageDescription: 6-Pin Plastic Small Outline No-Lead, 2 x 2 x 0.8 mm Body, 0.65 mm Pitch, Exposed Pad; Supplier 1: Digi-Key; Supplier Part Number 1: 296-32485-2-ND; Supplier 2: Digi-Key; Supplier Part Number 2: 296-32485-1-ND; Supplier 3: Digi-Key; Supplier Part Number 3: 296-32485-6-ND; Supplier 4: Newark; Supplier Part Number 4: 58M1283; Supplier 5: Mouser; Supplier Part Number 5: 595-TPS3838K33DRVT; Mounting Technology: Surface Mount; ComponentLink1Description: Datasheet; ComponentLink1URL: http://www.ti.com/general/docs/lit/getliterature.tsp?genericPartNumber=TPS3838K33&fileType=pdf
footprint DRV6-1600X1000TP (SON, 6-Leads, Body 2x2mm, Pitch 0.65mm, Thermal Pad 1.6x1mm, TI Recommended)
pins: 1 VDD (power), 2 GND (power), 3 ~{RESET} (oc), 4 ~{MR} (in), 5 NC, 6 CT (in), 7 EP (power)

## TPS3838K33DRVTG4
designator U?
220 nA Supervisor with 10 ms / 200 ms Selectable Delay Time, 1 Supply Monitored, -40 to 85 degC, 6-pin SON (DRV), Green (RoHS & no Sb/Br); Manufacturer: Texas Instruments; PartNumber: TPS3838K33DRVTG4; # of supplies monitored: 1; Iq(Typ)(uA): 0.22; Output Driver Type / Reset Output: Active-low, Open-drain; Rating: Catalog; Reset Threshold Accuracy(%): 2.6; SubFamily: Supervisor and Reset IC; Threshold Voltage 1 (typ)(Typ)(V): 2.93; Time Delay(ms): 10/200; VCC(Max)(V): 6; VCC(Min)(V): 1.6; DatasheetVersion: SLVS292E; PackageVersion: revE, Oct-2010; PackageReference: DRV6-1600X1000TP; PackageDescription: 6-Pin Plastic Small Outline No-Lead, 2 x 2 x 0.8 mm Body, 0.65 mm Pitch, Exposed Pad; Supplier 1: Digi-Key; Supplier Part Number 1: TPS3838K33DRVTG4-ND; Supplier 2: Newark; Supplier Part Number 2: 60M1789; Supplier 3: Mouser; Supplier Part Number 3: 595-TPS3838K33DRVTG4; Mounting Technology: Surface Mount; ComponentLink1Description: Datasheet; ComponentLink1URL: http://www.ti.com/general/docs/lit/getliterature.tsp?genericPartNumber=TPS3838K33&fileType=pdf
footprint DRV6-1600X1000TP (SON, 6-Leads, Body 2x2mm, Pitch 0.65mm, Thermal Pad 1.6x1mm, TI Recommended)
pins: 1 VDD (power), 2 GND (power), 3 ~{RESET} (oc), 4 ~{MR} (in), 5 NC, 6 CT (in), 7 EP (power)

## TPS3895ADRYR
designator U?
Single Channel, Ultra Small, Adjustable Supervisory Circuit with Active-High, Push-Pull Output, 1 Supply Monitored, -40 to 125 degC, 6-pin SON (DRY), Green (RoHS & no Sb/Br); Manufacturer: Texas Instruments; PartNumber: TPS3895ADRYR; # of supplies monitored: 1; Active High Enable: TRUE; Iq(Typ)(uA): 6; Rating: Catalog; Reset Threshold Accuracy(%): 0.25; SubFamily: Supervisor and Reset IC; Time Delay(ms): 0.04, Programmable; VCC(Max)(V): 6.5; VCC(Min)(V): 1.7; DatasheetVersion: SBVS172A; PackageVersion: revF, Dec-2011; PackageReference: DRY6; PackageDescription: 6-Pin Plastic Small Outline No-Lead, 1 x 1.45 x 0.6 mm Body, 0.5 mm Pitch; Supplier 1: Digi-Key; Supplier Part Number 1: 296-29806-2-ND; Supplier 2: Digi-Key; Supplier Part Number 2: 296-29806-1-ND; Supplier 3: Digi-Key; Supplier Part Number 3: 296-29806-6-ND; Supplier 4: Newark; Supplier Part Number 4: 71T5438; Supplier 5: Mouser; Supplier Part Number 5: 595-TPS3895ADRYR; Enable Pin: TRUE; Output Driver Type / Reset Output: Active-High, Push-pull; Threshold Voltage 1 (typ)(Typ)(V): Adjustable; Mounting Technology: Surface Mount; ComponentLink1Description: Datasheet; ComponentLink1URL: http://www.ti.com/general/docs/lit/getliterature.tsp?genericPartNumber=TPS3895&fileType=pdf
footprint DRY6 (PSON, 6-Leads, Body 1x1.45mm, Pitch 0.5mm, TI Recommended)
pins: 1 ENABLE (in) "Active high input. Driving ENABLE low immediately makes SENSE_OUT go low, independent of V(SENSE). With V(SENSE) already above VIT+, drive ENABLE high to make SENSE_OUT go high after the capacitor-adjustable delay time (A (See Datasheet)", 2 GND (power) "Ground", 3 SENSE (in) "This pin is connected to the voltage that is monitored with the use of external resistor. The output asserts after the capacitor-adjustable delay time when V(SENSE) rises above 0.5 V and ENABLE is asserted. The output (See Datasheet)", 4 SENSE_OUT (out) "SENSE_OUT is an open-drain/push-pull output that is immediately driven low after V(SENSE) falls below VIT+ - Vhys or the ENABLE input is low. SENSE_OUT goes high after the capacitor-adjustable delay time when V(SENSE) is (See Datasheet)", 5 CT (in) "Capacitor-adjustable delay. The CT pin offers a user-adjustable delay time. Connecting this pin to a ground referenced capacitor sets the delay time for SENSE rising above 0.5 V to SENSE_OUT asserting (or ENABLE asserting to (See Datasheet)", 6 VCC (power) "Supply voltage input. Connect a 1.7-V to 6.5-V supply to VCC to power the device. It is good analog design practice to place a 0.1-uF ceramic capacitor close to this pin."

## TPS3895ADRYT
designator U?
Single Channel, Ultra Small, Adjustable Supervisory Circuit with Active-High, Push-Pull Output, 1 Supply Monitored, -40 to 125 degC, 6-pin SON (DRY), Green (RoHS & no Sb/Br); Manufacturer: Texas Instruments; PartNumber: TPS3895ADRYT; # of supplies monitored: 1; Active High Enable: TRUE; Iq(Typ)(uA): 6; Rating: Catalog; Reset Threshold Accuracy(%): 0.25; SubFamily: Supervisor and Reset IC; Time Delay(ms): 0.04, Programmable; VCC(Max)(V): 6.5; VCC(Min)(V): 1.7; DatasheetVersion: SBVS172A; PackageVersion: revF, Dec-2011; PackageReference: DRY6; PackageDescription: 6-Pin Plastic Small Outline No-Lead, 1 x 1.45 x 0.6 mm Body, 0.5 mm Pitch; Supplier 1: Digi-Key; Supplier Part Number 1: TPS3895ADRYT-ND; Supplier 2: Newark; Supplier Part Number 2: 71T5439; Supplier 3: Mouser; Supplier Part Number 3: 595-TPS3895ADRYT; Enable Pin: TRUE; Output Driver Type / Reset Output: Active-High, Push-pull; Threshold Voltage 1 (typ)(Typ)(V): Adjustable; Mounting Technology: Surface Mount; ComponentLink1Description: Datasheet; ComponentLink1URL: http://www.ti.com/general/docs/lit/getliterature.tsp?genericPartNumber=TPS3895&fileType=pdf
footprint DRY6 (PSON, 6-Leads, Body 1x1.45mm, Pitch 0.5mm, TI Recommended)
pins: 1 ENABLE (in) "Active high input. Driving ENABLE low immediately makes SENSE_OUT go low, independent of V(SENSE). With V(SENSE) already above VIT+, drive ENABLE high to make SENSE_OUT go high after the capacitor-adjustable delay time (A (See Datasheet)", 2 GND (power) "Ground", 3 SENSE (in) "This pin is connected to the voltage that is monitored with the use of external resistor. The output asserts after the capacitor-adjustable delay time when V(SENSE) rises above 0.5 V and ENABLE is asserted. The output (See Datasheet)", 4 SENSE_OUT (out) "SENSE_OUT is an open-drain/push-pull output that is immediately driven low after V(SENSE) falls below VIT+ - Vhys or the ENABLE input is low. SENSE_OUT goes high after the capacitor-adjustable delay time when V(SENSE) is (See Datasheet)", 5 CT (in) "Capacitor-adjustable delay. The CT pin offers a user-adjustable delay time. Connecting this pin to a ground referenced capacitor sets the delay time for SENSE rising above 0.5 V to SENSE_OUT asserting (or ENABLE asserting to (See Datasheet)", 6 VCC (power) "Supply voltage input. Connect a 1.7-V to 6.5-V supply to VCC to power the device. It is good analog design practice to place a 0.1-uF ceramic capacitor close to this pin."

## TPS3895PDRYR
designator U?
Single Channel, Ultra Small, Adjustable Supervisory Circuit with Active-High, Push-Pull Output, 1 Supply Monitored, -40 to 125 degC, 6-pin SON (DRY), Green (RoHS & no Sb/Br); Manufacturer: Texas Instruments; PartNumber: TPS3895PDRYR; # of supplies monitored: 1; Active High Enable: TRUE; Iq(Typ)(uA): 6; Rating: Catalog; Reset Threshold Accuracy(%): 0.25; SubFamily: Supervisor and Reset IC; Time Delay(ms): 0.04, Programmable; VCC(Max)(V): 6.5; VCC(Min)(V): 1.7; DatasheetVersion: SBVS172A; PackageVersion: revF, Dec-2011; PackageReference: DRY6; PackageDescription: 6-Pin Plastic Small Outline No-Lead, 1 x 1.45 x 0.6 mm Body, 0.5 mm Pitch; Supplier 1: Digi-Key; Supplier Part Number 1: 296-29807-2-ND; Supplier 2: Digi-Key; Supplier Part Number 2: 296-29807-1-ND; Supplier 3: Digi-Key; Supplier Part Number 3: 296-29807-6-ND; Supplier 4: Newark; Supplier Part Number 4: 71T5440; Supplier 5: Mouser; Supplier Part Number 5: 595-TPS3895PDRYR; Enable Pin: TRUE; Output Driver Type / Reset Output: Active-High, Push-pull; Threshold Voltage 1 (typ)(Typ)(V): Adjustable; Mounting Technology: Surface Mount; ComponentLink1Description: Datasheet; ComponentLink1URL: http://www.ti.com/general/docs/lit/getliterature.tsp?genericPartNumber=TPS3895&fileType=pdf
footprint DRY6 (PSON, 6-Leads, Body 1x1.45mm, Pitch 0.5mm, TI Recommended)
pins: 1 ENABLE (in) "Active high input. Driving ENABLE low immediately makes SENSE_OUT go low, independent of V(SENSE). With V(SENSE) already above VIT+, drive ENABLE high to make SENSE_OUT go high after the capacitor-adjustable delay time (A (See Datasheet)", 2 GND (power) "Ground", 3 SENSE (in) "This pin is connected to the voltage that is monitored with the use of external resistor. The output asserts after the capacitor-adjustable delay time when V(SENSE) rises above 0.5 V and ENABLE is asserted. The output (See Datasheet)", 4 SENSE_OUT (out) "SENSE_OUT is an open-drain/push-pull output that is immediately driven low after V(SENSE) falls below VIT+ - Vhys or the ENABLE input is low. SENSE_OUT goes high after the capacitor-adjustable delay time when V(SENSE) is (See Datasheet)", 5 CT (in) "Capacitor-adjustable delay. The CT pin offers a user-adjustable delay time. Connecting this pin to a ground referenced capacitor sets the delay time for SENSE rising above 0.5 V to SENSE_OUT asserting (or ENABLE asserting to (See Datasheet)", 6 VCC (power) "Supply voltage input. Connect a 1.7-V to 6.5-V supply to VCC to power the device. It is good analog design practice to place a 0.1-uF ceramic capacitor close to this pin."

## TPS3895PDRYT
designator U?
Single Channel, Ultra Small, Adjustable Supervisory Circuit with Active-High, Push-Pull Output, 1 Supply Monitored, -40 to 125 degC, 6-pin SON (DRY), Green (RoHS & no Sb/Br); Manufacturer: Texas Instruments; PartNumber: TPS3895PDRYT; # of supplies monitored: 1; Active High Enable: TRUE; Iq(Typ)(uA): 6; Rating: Catalog; Reset Threshold Accuracy(%): 0.25; SubFamily: Supervisor and Reset IC; Time Delay(ms): 0.04, Programmable; VCC(Max)(V): 6.5; VCC(Min)(V): 1.7; DatasheetVersion: SBVS172A; PackageVersion: revF, Dec-2011; PackageReference: DRY6; PackageDescription: 6-Pin Plastic Small Outline No-Lead, 1 x 1.45 x 0.6 mm Body, 0.5 mm Pitch; Supplier 1: Digi-Key; Supplier Part Number 1: TPS3895PDRYT-ND; Supplier 2: Newark; Supplier Part Number 2: 71T5441; Supplier 3: Mouser; Supplier Part Number 3: 595-TPS3895PDRYT; Enable Pin: TRUE; Output Driver Type / Reset Output: Active-High, Push-pull; Threshold Voltage 1 (typ)(Typ)(V): Adjustable; Mounting Technology: Surface Mount; ComponentLink1Description: Datasheet; ComponentLink1URL: http://www.ti.com/general/docs/lit/getliterature.tsp?genericPartNumber=TPS3895&fileType=pdf
footprint DRY6 (PSON, 6-Leads, Body 1x1.45mm, Pitch 0.5mm, TI Recommended)
pins: 1 ENABLE (in) "Active high input. Driving ENABLE low immediately makes SENSE_OUT go low, independent of V(SENSE). With V(SENSE) already above VIT+, drive ENABLE high to make SENSE_OUT go high after the capacitor-adjustable delay time (A (See Datasheet)", 2 GND (power) "Ground", 3 SENSE (in) "This pin is connected to the voltage that is monitored with the use of external resistor. The output asserts after the capacitor-adjustable delay time when V(SENSE) rises above 0.5 V and ENABLE is asserted. The output (See Datasheet)", 4 SENSE_OUT (out) "SENSE_OUT is an open-drain/push-pull output that is immediately driven low after V(SENSE) falls below VIT+ - Vhys or the ENABLE input is low. SENSE_OUT goes high after the capacitor-adjustable delay time when V(SENSE) is (See Datasheet)", 5 CT (in) "Capacitor-adjustable delay. The CT pin offers a user-adjustable delay time. Connecting this pin to a ground referenced capacitor sets the delay time for SENSE rising above 0.5 V to SENSE_OUT asserting (or ENABLE asserting to (See Datasheet)", 6 VCC (power) "Supply voltage input. Connect a 1.7-V to 6.5-V supply to VCC to power the device. It is good analog design practice to place a 0.1-uF ceramic capacitor close to this pin."

## TPS3896ADRYR
designator U?
Single Channel, Ultra Small, Adjustable Supervisory Circuit with Active-Low, Push-Pull Output, 1 Supply Monitored, -40 to 125 degC, 6-pin SON (DRY), Green (RoHS & no Sb/Br); Manufacturer: Texas Instruments; PartNumber: TPS3896ADRYR; # of supplies monitored: 1; Active Low Enable: TRUE; Iq(Typ)(uA): 6; Rating: Catalog; Reset Threshold Accuracy(%): 0.25; SubFamily: Supervisor and Reset IC; Time Delay(ms): 0.04, Programmable; VCC(Max)(V): 6.5; VCC(Min)(V): 1.7; DatasheetVersion: SBVS172A; PackageVersion: revF, Dec-2011; PackageReference: DRY6; PackageDescription: 6-Pin Plastic Small Outline No-Lead, 1 x 1.45 x 0.6 mm Body, 0.5 mm Pitch; Supplier 1: Digi-Key; Supplier Part Number 1: 296-29808-2-ND; Supplier 2: Digi-Key; Supplier Part Number 2: 296-29808-1-ND; Supplier 3: Digi-Key; Supplier Part Number 3: 296-29808-6-ND; Supplier 4: Newark; Supplier Part Number 4: 71T5442; Supplier 5: Mouser; Supplier Part Number 5: 595-TPS3896ADRYR; Enable Pin: TRUE; Output Driver Type / Reset Output: Active-low, Push-pull; Threshold Voltage 1 (typ)(Typ)(V): Adjustable; Mounting Technology: Surface Mount; ComponentLink1Description: Datasheet; ComponentLink1URL: http://www.ti.com/general/docs/lit/getliterature.tsp?genericPartNumber=TPS3896&fileType=pdf
footprint DRY6 (PSON, 6-Leads, Body 1x1.45mm, Pitch 0.5mm, TI Recommended)
pins: 1 ~{ENABLE} (in) "Active low input. Driving E\N\A\B\L\E\ high immediately makes S\E\N\S\E\_\O\U\T\ go high, independent of V(SENSE).  With V(SENSE) already above VIT+, drive E\N\A\B\L\E\ low to make S\E\N\S\E\_\O\U\T\ go low after the (See Datasheet)", 2 GND (power) "Ground", 3 SENSE (in) "This pin is connected to the voltage that is monitored with the use of external resistor. The output asserts after the capacitor-adjustable delay time when V(SENSE) rises above 0.5 V and ENABLE is asserted. The output (See Datasheet)", 4 ~{SENSE_OUT} (out) "S\E\N\S\E\_\O\U\T\ is an open-drain/push-pull output that is immediately driven high after V(SENSE) falls below VIT+ - Vhys or the E\N\A\B\L\E\ input is high. S\E\N\S\E\_\O\U\T\ goes low after the capacitor-adjustable delay (See Datasheet)", 5 CT (in) "Capacitor-adjustable delay. The CT pin offers a user-adjustable delay time. Connecting this pin to a ground referenced capacitor sets the delay time for SENSE rising above 0.5 V to  SENSE_OUT asserting (or ENABLE asserting (See Datasheet)", 6 VCC (power) "Supply voltage input. Connect a 1.7-V to 6.5-V supply to VCC to power the device. It is good analog design practice to place a 0.1-µF ceramic capacitor close to this pin."

## TPS3896ADRYT
designator U?
Single Channel, Ultra Small, Adjustable Supervisory Circuit with Active-Low, Push-Pull Output, 1 Supply Monitored, -40 to 125 degC, 6-pin SON (DRY), Green (RoHS & no Sb/Br); Manufacturer: Texas Instruments; PartNumber: TPS3896ADRYT; # of supplies monitored: 1; Active Low Enable: TRUE; Iq(Typ)(uA): 6; Rating: Catalog; Reset Threshold Accuracy(%): 0.25; SubFamily: Supervisor and Reset IC; Time Delay(ms): 0.04, Programmable; VCC(Max)(V): 6.5; VCC(Min)(V): 1.7; DatasheetVersion: SBVS172A; PackageVersion: revF, Dec-2011; PackageReference: DRY6; PackageDescription: 6-Pin Plastic Small Outline No-Lead, 1 x 1.45 x 0.6 mm Body, 0.5 mm Pitch; Supplier 1: Digi-Key; Supplier Part Number 1: TPS3896ADRYT-ND; Supplier 2: Newark; Supplier Part Number 2: 71T5443; Supplier 3: Mouser; Supplier Part Number 3: 595-TPS3896ADRYT; Enable Pin: TRUE; Output Driver Type / Reset Output: Active-low, Push-pull; Threshold Voltage 1 (typ)(Typ)(V): Adjustable; Mounting Technology: Surface Mount; ComponentLink1Description: Datasheet; ComponentLink1URL: http://www.ti.com/general/docs/lit/getliterature.tsp?genericPartNumber=TPS3896&fileType=pdf
footprint DRY6 (PSON, 6-Leads, Body 1x1.45mm, Pitch 0.5mm, TI Recommended)
pins: 1 ~{ENABLE} (in) "Active low input. Driving E\N\A\B\L\E\ high immediately makes S\E\N\S\E\_\O\U\T\ go high, independent of V(SENSE).  With V(SENSE) already above VIT+, drive E\N\A\B\L\E\ low to make S\E\N\S\E\_\O\U\T\ go low after the (See Datasheet)", 2 GND (power) "Ground", 3 SENSE (in) "This pin is connected to the voltage that is monitored with the use of external resistor. The output asserts after the capacitor-adjustable delay time when V(SENSE) rises above 0.5 V and ENABLE is asserted. The output (See Datasheet)", 4 ~{SENSE_OUT} (out) "S\E\N\S\E\_\O\U\T\ is an open-drain/push-pull output that is immediately driven high after V(SENSE) falls below VIT+ - Vhys or the E\N\A\B\L\E\ input is high. S\E\N\S\E\_\O\U\T\ goes low after the capacitor-adjustable delay (See Datasheet)", 5 CT (in) "Capacitor-adjustable delay. The CT pin offers a user-adjustable delay time. Connecting this pin to a ground referenced capacitor sets the delay time for SENSE rising above 0.5 V to  SENSE_OUT asserting (or ENABLE asserting (See Datasheet)", 6 VCC (power) "Supply voltage input. Connect a 1.7-V to 6.5-V supply to VCC to power the device. It is good analog design practice to place a 0.1-µF ceramic capacitor close to this pin."